# Altium integrated library MPU-60X0.IntLib: 1 symbol
Pins are listed as number, name and electrical type; pins without a type are passive.

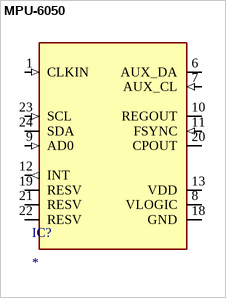
[diagram p0: symbol MPU-6050]

## MPU-6050
designator IC?
footprint MPU_6050
pins: 1 CLKIN (in), 6 AUX_DA (io), 7 AUX_CL (in), 8 VLOGIC (power), 9 AD0 (in), 10 REGOUT, 11 FSYNC (in), 12 INT (out), 13 VDD (power), 18 GND (power), 19 RESV, 20 CPOUT, 21 RESV, 22 RESV, 23 SCL (in), 24 SDA (io)